# Altium schematic symbol library extBoardLib.SchLib: 8 symbols
Pins are listed as number, name and electrical type; pins without a type are passive.

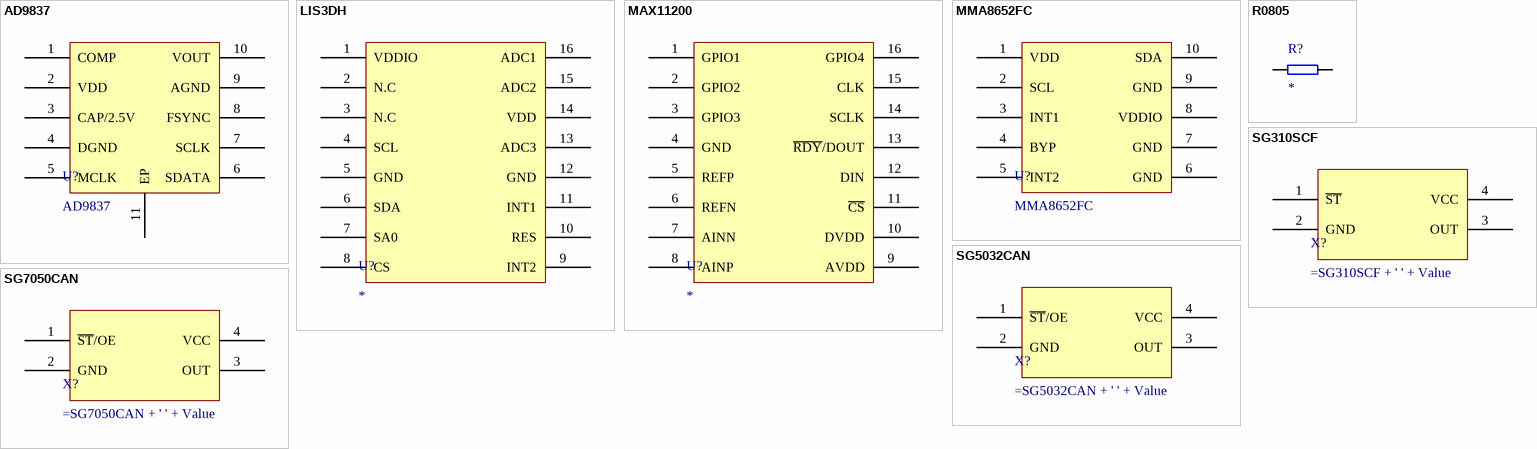
[diagram p0: symbols AD9837 to SG7050CAN]

## AD9837
designator U?
footprint DFN50P300X300X95-10N (DFN, 10-Leads, Body 3.0x3.0mm (max), Pitch 0.50mm, IPC Medium Density)
pins: 1 COMP, 2 VDD, 3 CAP/2.5V, 4 DGND, 5 MCLK, 6 SDATA, 7 SCLK, 8 FSYNC, 9 AGND, 10 VOUT, 11 EP

## LIS3DH
designator U?
footprint LGA-16 (3x3x1.0mm) (LGA-16 Package, 3mm x 3mm x 1mm)
pins: 1 VDDIO, 2 N.C, 3 N.C, 4 SCL, 5 GND, 6 SDA, 7 SA0, 8 CS, 9 INT2, 10 RES, 11 INT1, 12 GND, 13 ADC3, 14 VDD, 15 ADC2, 16 ADC1

## MAX11200
designator U?
footprint QSOP16
pins: 1 GPIO1, 2 GPIO2, 3 GPIO3, 4 GND, 5 REFP, 6 REFN, 7 AINN, 8 AINP, 9 AVDD, 10 DVDD, 11 ~{CS}, 12 DIN, 13 ~{RDY}/DOUT, 14 SCLK, 15 CLK, 16 GPIO4

## MMA8652FC
designator U?
footprint DFN40P200X200X95-10N (DFN, 10-Leads, Body 2.0x2.0mm (max), Pitch 0.40mm, IPC Medium Density)
pins: 1 VDD, 2 SCL, 3 INT1, 4 BYP, 5 INT2, 6 GND, 7 GND, 8 VDDIO, 9 GND, 10 SDA

## R0805
designator R?
Value: *
footprint R0805
pins: 1, 2

## SG310SCF
designator X?
Value: *
footprint SG310SCF
pins: 1 ~{ST}, 2 GND, 3 OUT, 4 VCC

## SG5032CAN
designator X?
Value: *
footprint SG5032CAN
pins: 1 ~{ST}/OE, 2 GND, 3 OUT, 4 VCC

## SG7050CAN
designator X?
Value: *
footprint SG7050CAN
pins: 1 ~{ST}/OE, 2 GND, 3 OUT, 4 VCC